# EAGLE library part NAVSPARK (library RalimTek)
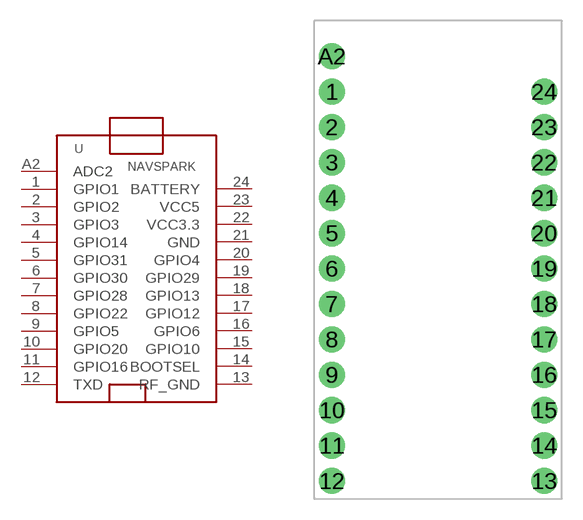
[diagram p12: symbol with the pads of ARDUINO_PRO_MINI; footprint ARDUINO_PRO_MINI]

Designator prefix -

## NAVSPARK  [ARDUINO_PRO_MINI]
1  GPIO1
2  GPIO2
3  GPIO3
4  GPIO14
5  GPIO31
6  GPIO30
7  GPIO28
8  GPIO22
9  GPIO5
10  GPIO20
11  GPIO16
12  TXD
13  RF_GND
14  BOOTSEL
15  GPIO10
16  GPIO6
17  GPIO12
18  GPIO13
19  GPIO29
20  GPIO4
21  GND
22  VCC3.3
23  VCC5
24  BATTERY
A2  ADC2

## Footprint ARDUINO_PRO_MINI (pad centres in mm)
drill 1.016 pad 1.88: 1 -7.62,12.7; 2 -7.62,10.16; 3 -7.62,7.62; 4 -7.62,5.08; 5 -7.62,2.54; 6 -7.62,0; 7 -7.62,-2.54; 8 -7.62,-5.08; 9 -7.62,-7.62; 10 -7.62,-10.16; 11 -7.62,-12.7; 12 -7.62,-15.24; 13 7.62,-15.24; 14 7.62,-12.7; 15 7.62,-10.16; 16 7.62,-7.62; 17 7.62,-5.08; 18 7.62,-2.54; 19 7.62,0; 20 7.62,2.54; 21 7.62,5.08; 22 7.62,7.62; 23 7.62,10.16; 24 7.62,12.7; A2 -7.62,15.24